# EAGLE library part 403-51016-5X (library con-ept-one27)
ept One27 male right angled 16pins 1.27 mm pitch SMT Board-to-Board Connector System for parallel, horizontal and perpendicular PCB connections as well as cable-to-board connections. For mezzanine board-to-board connections from 8mm up to 13.8mm. Available with 12 to 80 pins. www.ept.de
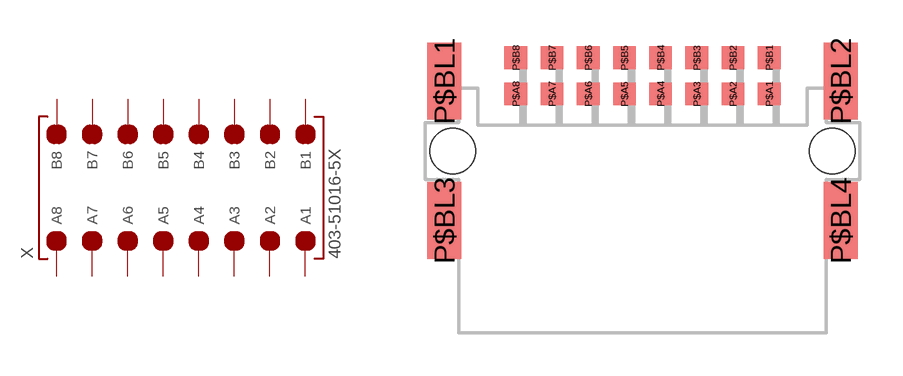
[diagram p10: symbol with the pads of 403-51016-5X; footprint 403-51016-5X]

Designator prefix X

## 403-51016-5X  [403-51016-5X]
P$A1  A1  pas
P$A2  A2  pas
P$A3  A3  pas
P$A4  A4  pas
P$A5  A5  pas
P$A6  A6  pas
P$A7  A7  pas
P$A8  A8  pas
P$B1  B1  pas
P$B2  B2  pas
P$B3  B3  pas
P$B4  B4  pas
P$B5  B5  pas
P$B6  B6  pas
P$B7  B7  pas
P$B8  B8  pas

## Footprint 403-51016-5X (pad centres in mm)
ept One27 male right angled 16pins 1.27 mm pitch SMT Board-to-Board Connector System for parallel, horizontal and perpendicular PCB connections as well as cable-to-board connections. For mezzanine board-to-board connections from 8mm up to 13.8mm. Available with 12 to 80 pins. www.ept.de
smd 0.8 x 0.8: P$A1 4.445,2; P$A2 3.175,2; P$A3 1.905,2; P$A4 0.635,2; P$A5 -0.635,2; P$A6 -1.905,2; P$A7 -3.175,2; P$A8 -4.445,2; P$B1 4.445,3.27; P$B2 3.175,3.27; P$B3 1.905,3.27; P$B4 0.635,3.27; P$B5 -0.635,3.27; P$B6 -1.905,3.27; P$B7 -3.175,3.27; P$B8 -4.445,3.27
smd 1.2 x 2.7: P$BL1 -6.955,2.45; P$BL2 6.955,2.45; P$BL3 -6.955,-2.45; P$BL4 6.955,-2.45
hole 1.6 at -6.655,0
hole 1.6 at 6.655,0